# Altium schematic symbol library AD5252BRUZ50.Schlib: 1 symbol
Pins are listed as number, name and electrical type; pins without a type are passive.

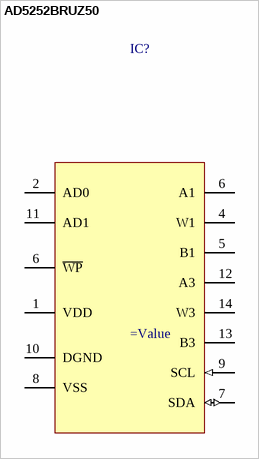
[diagram p0: symbol AD5252BRUZ50]

## AD5252BRUZ50
designator IC?
=Description
pins: 1 VDD (power), 2 AD0, 4 W1, 5 B1, 6 A1, 6 ~{WP}, 7 SDA (io), 8 VSS (power), 9 SCL (in), 10 DGND (power), 11 AD1, 12 A3, 13 B3, 14 W3